# Altium integrated library Altium_SMST (rev19b).IntLib: 106 symbols (part 2 of 2)
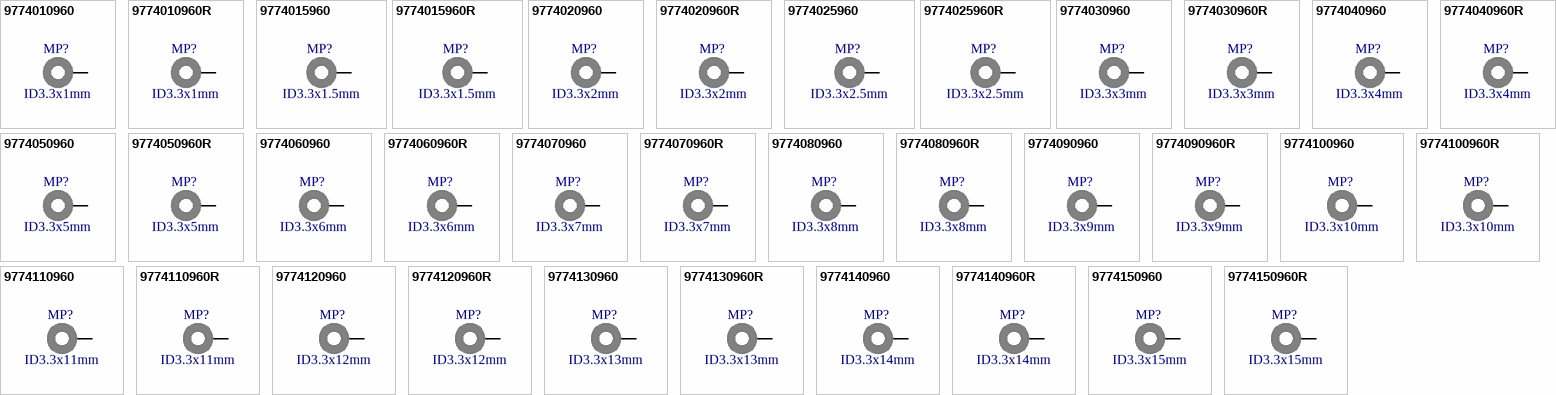
[diagram p4: symbols 9774010960 to 9774150960R]

## 9774140960
designator MP?, comment ID3.3x14mm
WA-SMST SMT Steel Spacer non stop, OD6mm, ID3.3x14mm; Part Number: 9774140960; Inner Diameter: 3.3mm; Outer Diameter: 6mm; Surface: Tin; ComponentLink1Description: Manufacturer; ComponentLink1URL: http://www.we-online.de; ComponentLink2Description: Datasheet; ComponentLink2URL: https://katalog.we-online.com/em/datasheet/9774140960.pdf; Operating Temperature: -55 to +150degC; Published Date: September 2019; Material: Steel; Length: 14mm; Packaging: Bulk; Publisher: Wurth Elektronik; Mounting Technology: SMT
footprint 9774140960
pins: 1

## 9774140960R
designator MP?, comment ID3.3x14mm
WA-SMST SMT Steel Spacer non stop, OD6mm, ID3.3x14mm; Part Number: 9774140960R; Inner Diameter: 3.3mm; Outer Diameter: 6mm; Surface: Tin; ComponentLink1Description: Manufacturer; ComponentLink1URL: http://www.we-online.de; ComponentLink2Description: Datasheet; ComponentLink2URL: https://katalog.we-online.com/em/datasheet/9774140960R.pdf; Operating Temperature: -55 to +150degC; Published Date: September 2019; Material: Steel; Length: 14mm; Packaging: Tape and Reel; Publisher: Wurth Elektronik; Mounting Technology: SMT
footprint 9774140960
pins: 1

## 9774150960
designator MP?, comment ID3.3x15mm
WA-SMST SMT Steel Spacer non stop, OD6mm, ID3.3x15mm; Part Number: 9774150960; Inner Diameter: 3.3mm; Outer Diameter: 6mm; Surface: Tin; ComponentLink1Description: Manufacturer; ComponentLink1URL: http://www.we-online.de; ComponentLink2Description: Datasheet; ComponentLink2URL: https://katalog.we-online.com/em/datasheet/9774150960.pdf; Operating Temperature: -55 to +150degC; Published Date: September 2019; Material: Steel; Length: 15mm; Packaging: Bulk; Publisher: Wurth Elektronik; Mounting Technology: SMT
footprint 9774150960
pins: 1

## 9774150960R
designator MP?, comment ID3.3x15mm
WA-SMST SMT Steel Spacer non stop, OD6mm, ID3.3x15mm; Part Number: 9774150960R; Inner Diameter: 3.3mm; Outer Diameter: 6mm; Surface: Tin; ComponentLink1Description: Manufacturer; ComponentLink1URL: http://www.we-online.de; ComponentLink2Description: Datasheet; ComponentLink2URL: https://katalog.we-online.com/em/datasheet/9774150960R.pdf; Operating Temperature: -55 to +150degC; Published Date: September 2019; Material: Steel; Length: 15mm; Packaging: Tape and Reel; Publisher: Wurth Elektronik; Mounting Technology: SMT
footprint 9774150960
pins: 1


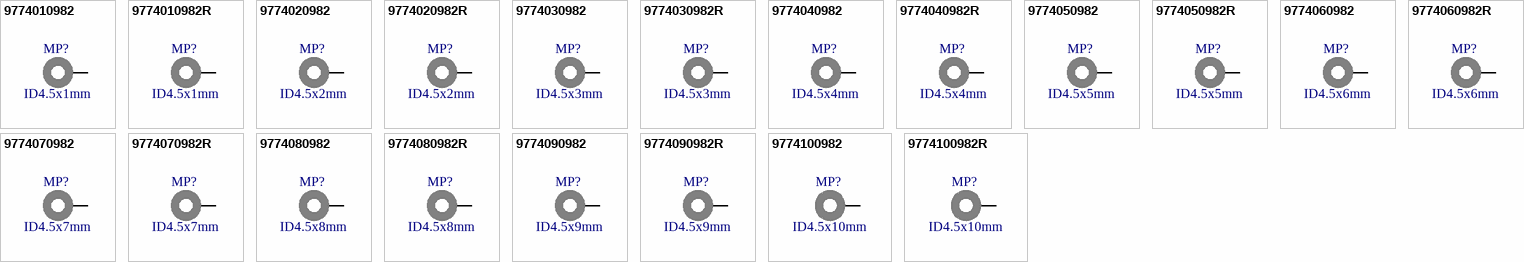
[diagram p3: symbols 9774010982 to 9774100982R]

## 9774010982
designator MP?, comment ID4.5x1mm
WA-SMST SMT Steel Spacer non stop, OD8.2mm, ID4.5x1mm; Part Number: 9774010982; Inner Diameter: 4.5mm; Outer Diameter: 8.2mm; Surface: Tin; ComponentLink1Description: Manufacturer; ComponentLink1URL: http://www.we-online.de; ComponentLink2Description: Datasheet; ComponentLink2URL: https://katalog.we-online.com/em/datasheet/9774010982.pdf; Operating Temperature: -55 to +150degC; Published Date: September 2019; Material: Steel; Length: 1mm; Packaging: Bulk; Publisher: Wurth Elektronik; Mounting Technology: SMT
footprint 9774010982
pins: 1

## 9774010982R
designator MP?, comment ID4.5x1mm
WA-SMST SMT Steel Spacer non stop, OD8.2mm, ID4.5x1mm; Part Number: 9774010982R; Inner Diameter: 4.5mm; Outer Diameter: 8.2mm; Surface: Tin; ComponentLink1Description: Manufacturer; ComponentLink1URL: http://www.we-online.de; ComponentLink2Description: Datasheet; ComponentLink2URL: https://katalog.we-online.com/em/datasheet/9774010982R.pdf; Operating Temperature: -55 to +150degC; Published Date: September 2019; Material: Steel; Length: 1mm; Packaging: Tape and Reel; Publisher: Wurth Elektronik; Mounting Technology: SMT
footprint 9774010982
pins: 1

## 9774020982
designator MP?, comment ID4.5x2mm
WA-SMST SMT Steel Spacer non stop, OD8.2mm, ID4.5x2mm; Part Number: 9774020982; Inner Diameter: 4.5mm; Outer Diameter: 8.2mm; Surface: Tin; ComponentLink1Description: Manufacturer; ComponentLink1URL: http://www.we-online.de; ComponentLink2Description: Datasheet; ComponentLink2URL: https://katalog.we-online.com/em/datasheet/9774020982.pdf; Operating Temperature: -55 to +150degC; Published Date: September 2019; Material: Steel; Length: 2mm; Packaging: Bulk; Publisher: Wurth Elektronik; Mounting Technology: SMT
footprint 9774020982
pins: 1

## 9774020982R
designator MP?, comment ID4.5x2mm
WA-SMST SMT Steel Spacer non stop, OD8.2mm, ID4.5x2mm; Part Number: 9774020982R; Inner Diameter: 4.5mm; Outer Diameter: 8.2mm; Surface: Tin; ComponentLink1Description: Manufacturer; ComponentLink1URL: http://www.we-online.de; ComponentLink2Description: Datasheet; ComponentLink2URL: https://katalog.we-online.com/em/datasheet/9774020982R.pdf; Operating Temperature: -55 to +150degC; Published Date: September 2019; Material: Steel; Length: 2mm; Packaging: Tape and Reel; Publisher: Wurth Elektronik; Mounting Technology: SMT
footprint 9774020982
pins: 1

## 9774030982
designator MP?, comment ID4.5x3mm
WA-SMST SMT Steel Spacer non stop, OD8.2mm, ID4.5x3mm; Part Number: 9774030982; Inner Diameter: 4.5mm; Outer Diameter: 8.2mm; Surface: Tin; ComponentLink1Description: Manufacturer; ComponentLink1URL: http://www.we-online.de; ComponentLink2Description: Datasheet; ComponentLink2URL: https://katalog.we-online.com/em/datasheet/9774030982.pdf; Operating Temperature: -55 to +150degC; Published Date: September 2019; Material: Steel; Length: 3mm; Packaging: Bulk; Publisher: Wurth Elektronik; Mounting Technology: SMT
footprint 9774030982
pins: 1

## 9774030982R
designator MP?, comment ID4.5x3mm
WA-SMST SMT Steel Spacer non stop, OD8.2mm, ID4.5x3mm; Part Number: 9774030982R; Inner Diameter: 4.5mm; Outer Diameter: 8.2mm; Surface: Tin; ComponentLink1Description: Manufacturer; ComponentLink1URL: http://www.we-online.de; ComponentLink2Description: Datasheet; ComponentLink2URL: https://katalog.we-online.com/em/datasheet/9774030982R.pdf; Operating Temperature: -55 to +150degC; Published Date: September 2019; Material: Steel; Length: 3mm; Packaging: Tape and Reel; Publisher: Wurth Elektronik; Mounting Technology: SMT
footprint 9774030982
pins: 1

## 9774040982
designator MP?, comment ID4.5x4mm
WA-SMST SMT Steel Spacer non stop, OD8.2mm, ID4.5x4mm; Part Number: 9774040982; Inner Diameter: 4.5mm; Outer Diameter: 8.2mm; Surface: Tin; ComponentLink1Description: Manufacturer; ComponentLink1URL: http://www.we-online.de; ComponentLink2Description: Datasheet; ComponentLink2URL: https://katalog.we-online.com/em/datasheet/9774040982.pdf; Operating Temperature: -55 to +150degC; Published Date: September 2019; Material: Steel; Length: 4mm; Packaging: Bulk; Publisher: Wurth Elektronik; Mounting Technology: SMT
footprint 9774040982
pins: 1

## 9774040982R
designator MP?, comment ID4.5x4mm
WA-SMST SMT Steel Spacer non stop, OD8.2mm, ID4.5x4mm; Part Number: 9774040982R; Inner Diameter: 4.5mm; Outer Diameter: 8.2mm; Surface: Tin; ComponentLink1Description: Manufacturer; ComponentLink1URL: http://www.we-online.de; ComponentLink2Description: Datasheet; ComponentLink2URL: https://katalog.we-online.com/em/datasheet/9774040982R.pdf; Operating Temperature: -55 to +150degC; Published Date: September 2019; Material: Steel; Length: 4mm; Packaging: Tape and Reel; Publisher: Wurth Elektronik; Mounting Technology: SMT
footprint 9774040982
pins: 1

## 9774050982
designator MP?, comment ID4.5x5mm
WA-SMST SMT Steel Spacer non stop, OD8.2mm, ID4.5x5mm; Part Number: 9774050982; Inner Diameter: 4.5mm; Outer Diameter: 8.2mm; Surface: Tin; ComponentLink1Description: Manufacturer; ComponentLink1URL: http://www.we-online.de; ComponentLink2Description: Datasheet; ComponentLink2URL: https://katalog.we-online.com/em/datasheet/9774050982.pdf; Operating Temperature: -55 to +150degC; Published Date: September 2019; Material: Steel; Length: 5mm; Packaging: Bulk; Publisher: Wurth Elektronik; Mounting Technology: SMT
footprint 9774050982
pins: 1

## 9774050982R
designator MP?, comment ID4.5x5mm
WA-SMST SMT Steel Spacer non stop, OD8.2mm, ID4.5x5mm; Part Number: 9774050982R; Inner Diameter: 4.5mm; Outer Diameter: 8.2mm; Surface: Tin; ComponentLink1Description: Manufacturer; ComponentLink1URL: http://www.we-online.de; ComponentLink2Description: Datasheet; ComponentLink2URL: https://katalog.we-online.com/em/datasheet/9774050982R.pdf; Operating Temperature: -55 to +150degC; Published Date: September 2019; Material: Steel; Length: 5mm; Packaging: Tape and Reel; Publisher: Wurth Elektronik; Mounting Technology: SMT
footprint 9774050982
pins: 1

## 9774060982
designator MP?, comment ID4.5x6mm
WA-SMST SMT Steel Spacer non stop, OD8.2mm, ID4.5x6mm; Part Number: 9774060982; Inner Diameter: 4.5mm; Outer Diameter: 8.2mm; Surface: Tin; ComponentLink1Description: Manufacturer; ComponentLink1URL: http://www.we-online.de; ComponentLink2Description: Datasheet; ComponentLink2URL: https://katalog.we-online.com/em/datasheet/9774060982.pdf; Operating Temperature: -55 to +150degC; Published Date: September 2019; Material: Steel; Length: 6mm; Packaging: Bulk; Publisher: Wurth Elektronik; Mounting Technology: SMT
footprint 9774060982
pins: 1

## 9774060982R
designator MP?, comment ID4.5x6mm
WA-SMST SMT Steel Spacer non stop, OD8.2mm, ID4.5x6mm; Part Number: 9774060982R; Inner Diameter: 4.5mm; Outer Diameter: 8.2mm; Surface: Tin; ComponentLink1Description: Manufacturer; ComponentLink1URL: http://www.we-online.de; ComponentLink2Description: Datasheet; ComponentLink2URL: https://katalog.we-online.com/em/datasheet/9774060982R.pdf; Operating Temperature: -55 to +150degC; Published Date: September 2019; Material: Steel; Length: 6mm; Packaging: Tape and Reel; Publisher: Wurth Elektronik; Mounting Technology: SMT
footprint 9774060982
pins: 1

## 9774070982
designator MP?, comment ID4.5x7mm
WA-SMST SMT Steel Spacer non stop, OD8.2mm, ID4.5x7mm; Part Number: 9774070982; Inner Diameter: 4.5mm; Outer Diameter: 8.2mm; Surface: Tin; ComponentLink1Description: Manufacturer; ComponentLink1URL: http://www.we-online.de; ComponentLink2Description: Datasheet; ComponentLink2URL: https://katalog.we-online.com/em/datasheet/9774070982.pdf; Operating Temperature: -55 to +150degC; Published Date: September 2019; Material: Steel; Length: 7mm; Packaging: Bulk; Publisher: Wurth Elektronik; Mounting Technology: SMT
footprint 9774070982
pins: 1

## 9774070982R
designator MP?, comment ID4.5x7mm
WA-SMST SMT Steel Spacer non stop, OD8.2mm, ID4.5x7mm; Part Number: 9774070982R; Inner Diameter: 4.5mm; Outer Diameter: 8.2mm; Surface: Tin; ComponentLink1Description: Manufacturer; ComponentLink1URL: http://www.we-online.de; ComponentLink2Description: Datasheet; ComponentLink2URL: https://katalog.we-online.com/em/datasheet/9774070982R.pdf; Operating Temperature: -55 to +150degC; Published Date: September 2019; Material: Steel; Length: 7mm; Packaging: Tape and Reel; Publisher: Wurth Elektronik; Mounting Technology: SMT
footprint 9774070982
pins: 1

## 9774080982
designator MP?, comment ID4.5x8mm
WA-SMST SMT Steel Spacer non stop, OD8.2mm, ID4.5x8mm; Part Number: 9774080982; Inner Diameter: 4.5mm; Outer Diameter: 8.2mm; Surface: Tin; ComponentLink1Description: Manufacturer; ComponentLink1URL: http://www.we-online.de; ComponentLink2Description: Datasheet; ComponentLink2URL: https://katalog.we-online.com/em/datasheet/9774080982.pdf; Operating Temperature: -55 to +150degC; Published Date: September 2019; Material: Steel; Length: 8mm; Packaging: Bulk; Publisher: Wurth Elektronik; Mounting Technology: SMT
footprint 9774080982
pins: 1

## 9774080982R
designator MP?, comment ID4.5x8mm
WA-SMST SMT Steel Spacer non stop, OD8.2mm, ID4.5x8mm; Part Number: 9774080982R; Inner Diameter: 4.5mm; Outer Diameter: 8.2mm; Surface: Tin; ComponentLink1Description: Manufacturer; ComponentLink1URL: http://www.we-online.de; ComponentLink2Description: Datasheet; ComponentLink2URL: https://katalog.we-online.com/em/datasheet/9774080982R.pdf; Operating Temperature: -55 to +150degC; Published Date: September 2019; Material: Steel; Length: 8mm; Packaging: Tape and Reel; Publisher: Wurth Elektronik; Mounting Technology: SMT
footprint 9774080982
pins: 1

## 9774090982
designator MP?, comment ID4.5x9mm
WA-SMST SMT Steel Spacer non stop, OD8.2mm, ID4.5x9mm; Part Number: 9774090982; Inner Diameter: 4.5mm; Outer Diameter: 8.2mm; Surface: Tin; ComponentLink1Description: Manufacturer; ComponentLink1URL: http://www.we-online.de; ComponentLink2Description: Datasheet; ComponentLink2URL: https://katalog.we-online.com/em/datasheet/9774090982.pdf; Operating Temperature: -55 to +150degC; Published Date: September 2019; Material: Steel; Length: 9mm; Packaging: Bulk; Publisher: Wurth Elektronik; Mounting Technology: SMT
footprint 9774090982
pins: 1

## 9774090982R
designator MP?, comment ID4.5x9mm
WA-SMST SMT Steel Spacer non stop, OD8.2mm, ID4.5x9mm; Part Number: 9774090982R; Inner Diameter: 4.5mm; Outer Diameter: 8.2mm; Surface: Tin; ComponentLink1Description: Manufacturer; ComponentLink1URL: http://www.we-online.de; ComponentLink2Description: Datasheet; ComponentLink2URL: https://katalog.we-online.com/em/datasheet/9774090982R.pdf; Operating Temperature: -55 to +150degC; Published Date: September 2019; Material: Steel; Length: 9mm; Packaging: Tape and Reel; Publisher: Wurth Elektronik; Mounting Technology: SMT
footprint 9774090982
pins: 1

## 9774100982
designator MP?, comment ID4.5x10mm
WA-SMST SMT Steel Spacer non stop, OD8.2mm, ID4.5x10mm; Part Number: 9774100982; Inner Diameter: 4.5mm; Outer Diameter: 8.2mm; Surface: Tin; ComponentLink1Description: Manufacturer; ComponentLink1URL: http://www.we-online.de; ComponentLink2Description: Datasheet; ComponentLink2URL: https://katalog.we-online.com/em/datasheet/9774100982.pdf; Operating Temperature: -55 to +150degC; Published Date: September 2019; Material: Steel; Length: 10mm; Packaging: Bulk; Publisher: Wurth Elektronik; Mounting Technology: SMT
footprint 9774100982
pins: 1

## 9774100982R
designator MP?, comment ID4.5x10mm
WA-SMST SMT Steel Spacer non stop, OD8.2mm, ID4.5x10mm; Part Number: 9774100982R; Inner Diameter: 4.5mm; Outer Diameter: 8.2mm; Surface: Tin; ComponentLink1Description: Manufacturer; ComponentLink1URL: http://www.we-online.de; ComponentLink2Description: Datasheet; ComponentLink2URL: https://katalog.we-online.com/em/datasheet/9774100982R.pdf; Operating Temperature: -55 to +150degC; Published Date: September 2019; Material: Steel; Length: 10mm; Packaging: Tape and Reel; Publisher: Wurth Elektronik; Mounting Technology: SMT
footprint 9774100982
pins: 1